# EAGLE library part PI3740-00-LGIZ (library PI3740-00-LGIZ_new)
PI3740-00 Series 140 W 8 to 60 Vin 10 to 50 V ZVS Buck-Boost Switching Regulator Check prices <https://pricing.snapeda.com/parts/PI3740-00-LGIZ/Vicor%20Corporation/view-part?ref=eda>
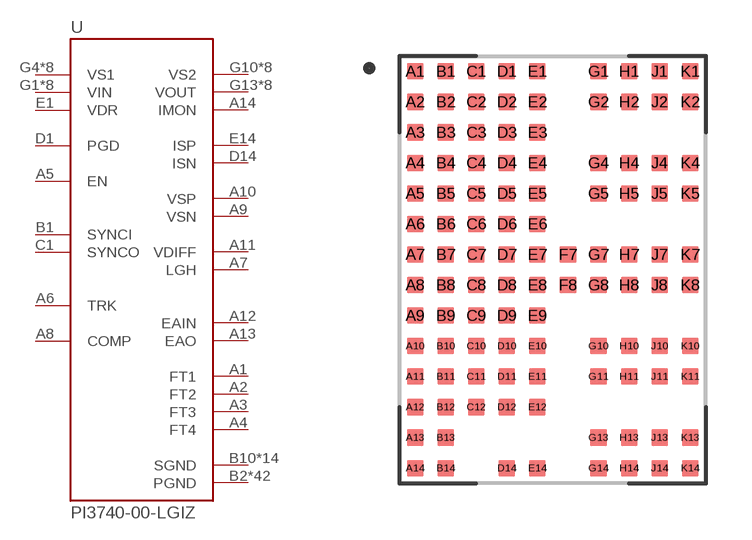
[diagram p0: symbol with the pads of LGA108S100P10X14_1000X1400X263N; footprint LGA108S100P10X14_1000X1400X263N]

Designator prefix U

## PI3740-00-LGIZ (Availability: No availability data; Description: Buck-Boost Switching Regulator IC Positive Adjustable (Fixed) 10V (12V) 1 Output 7.42A 108-BLGA Module; MF: Vicor Corporation; MP: PI3740-00-LGIZ; Package: BLGA-108 Vicor; Price: None)  [LGA108S100P10X14_1000X1400X263N]
A1  FT1  pas
A2  FT2  pas
A3  FT3  pas
A4  FT4  pas
A5  EN  in
A6  TRK  in
A7  LGH  in
A8  COMP  pas
A9  VSN  in
A10  VSP  in
A11  VDIFF  out
A12  EAIN  in
A13  EAO  out
A14  IMON  out
B1  SYNCI  in
B2  PGND  pwr
B3  PGND  pwr
B4  PGND  pwr
B5  PGND  pwr
B6  PGND  pwr
B7  PGND  pwr
B8  PGND  pwr
B9  PGND  pwr
B10  SGND  pwr
B11  SGND  pwr
B12  SGND  pwr
B13  SGND  pwr
B14  SGND  pwr
C1  SYNCO  out
C2  PGND  pwr
C3  PGND  pwr
C4  PGND  pwr
C5  PGND  pwr
C6  PGND  pwr
C7  PGND  pwr
C8  PGND  pwr
C9  PGND  pwr
C10  SGND  pwr
C11  SGND  pwr
C12  SGND  pwr
D1  PGD  in
D2  PGND  pwr
D3  PGND  pwr
D4  PGND  pwr
D5  PGND  pwr
D6  PGND  pwr
D7  PGND  pwr
D8  PGND  pwr
D9  PGND  pwr
D10  SGND  pwr
D11  SGND  pwr
D12  SGND  pwr
D14  ISN  in
E1  VDR  in
E2  PGND  pwr
E3  PGND  pwr
E4  PGND  pwr
E5  PGND  pwr
E6  PGND  pwr
E7  PGND  pwr
E8  PGND  pwr
E9  PGND  pwr
E10  SGND  pwr
E11  SGND  pwr
E12  SGND  pwr
E14  ISP  in
F7  PGND  pwr
F8  PGND  pwr
G1  VIN  in
G2  VIN  in
G4  VS1  in
G5  VS1  in
G7  PGND  pwr
G8  PGND  pwr
G10  VS2  pwr
G11  VS2  pwr
G13  VOUT  out
G14  VOUT  out
H1  VIN  in
H2  VIN  in
H4  VS1  in
H5  VS1  in
H7  PGND  pwr
H8  PGND  pwr
H10  VS2  pwr
H11  VS2  pwr
H13  VOUT  out
H14  VOUT  out
J1  VIN  in
J2  VIN  in
J4  VS1  in
J5  VS1  in
J7  PGND  pwr
J8  PGND  pwr
J10  VS2  pwr
J11  VS2  pwr
J13  VOUT  out
J14  VOUT  out
K1  VIN  in
K2  VIN  in
K4  VS1  in
K5  VS1  in
K7  PGND  pwr
K8  PGND  pwr
K10  VS2  pwr
K11  VS2  pwr
K13  VOUT  out
K14  VOUT  out

## Footprint LGA108S100P10X14_1000X1400X263N (pad centres in mm)
smd 0.55 x 0.55: A1 -4.5,6.5; A2 -4.5,5.5; A3 -4.5,4.5; A4 -4.5,3.5; A5 -4.5,2.5; A6 -4.5,1.5; A7 -4.5,0.5; A8 -4.5,-0.5; A9 -4.5,-1.5; A10 -4.5,-2.5; A11 -4.5,-3.5; A12 -4.5,-4.5; A13 -4.5,-5.5; A14 -4.5,-6.5; B1 -3.5,6.5; B2 -3.5,5.5; B3 -3.5,4.5; B4 -3.5,3.5; B5 -3.5,2.5; B6 -3.5,1.5; B7 -3.5,0.5; B8 -3.5,-0.5; B9 -3.5,-1.5; B10 -3.5,-2.5; B11 -3.5,-3.5; B12 -3.5,-4.5; B13 -3.5,-5.5; B14 -3.5,-6.5; C1 -2.5,6.5; C2 -2.5,5.5; C3 -2.5,4.5; C4 -2.5,3.5; C5 -2.5,2.5; C6 -2.5,1.5; C7 -2.5,0.5; C8 -2.5,-0.5; C9 -2.5,-1.5; C10 -2.5,-2.5; C11 -2.5,-3.5; C12 -2.5,-4.5; D1 -1.5,6.5; D2 -1.5,5.5; D3 -1.5,4.5; D4 -1.5,3.5; D5 -1.5,2.5; D6 -1.5,1.5; D7 -1.5,0.5; D8 -1.5,-0.5; D9 -1.5,-1.5; D10 -1.5,-2.5; D11 -1.5,-3.5; D12 -1.5,-4.5; D14 -1.5,-6.5; E1 -0.5,6.5; E2 -0.5,5.5; E3 -0.5,4.5; E4 -0.5,3.5; E5 -0.5,2.5; E6 -0.5,1.5; E7 -0.5,0.5; E8 -0.5,-0.5; E9 -0.5,-1.5; E10 -0.5,-2.5; E11 -0.5,-3.5; E12 -0.5,-4.5; E14 -0.5,-6.5; F7 0.5,0.5; F8 0.5,-0.5; G1 1.5,6.5; G2 1.5,5.5; G4 1.5,3.5; G5 1.5,2.5; G7 1.5,0.5; G8 1.5,-0.5; G10 1.5,-2.5; G11 1.5,-3.5; G13 1.5,-5.5; G14 1.5,-6.5; H1 2.5,6.5; H2 2.5,5.5; H4 2.5,3.5; H5 2.5,2.5; H7 2.5,0.5; H8 2.5,-0.5; H10 2.5,-2.5; H11 2.5,-3.5; H13 2.5,-5.5; H14 2.5,-6.5; J1 3.5,6.5; J2 3.5,5.5; J4 3.5,3.5; J5 3.5,2.5; J7 3.5,0.5; J8 3.5,-0.5; J10 3.5,-2.5; J11 3.5,-3.5; J13 3.5,-5.5; J14 3.5,-6.5; K1 4.5,6.5; K2 4.5,5.5; K4 4.5,3.5; K5 4.5,2.5; K7 4.5,0.5; K8 4.5,-0.5; K10 4.5,-2.5; K11 4.5,-3.5; K13 4.5,-5.5; K14 4.5,-6.5